# Altium schematic symbol library HAB_Lib.SchLib: 90 symbols
Pins are listed as number, name and electrical type; pins without a type are passive.

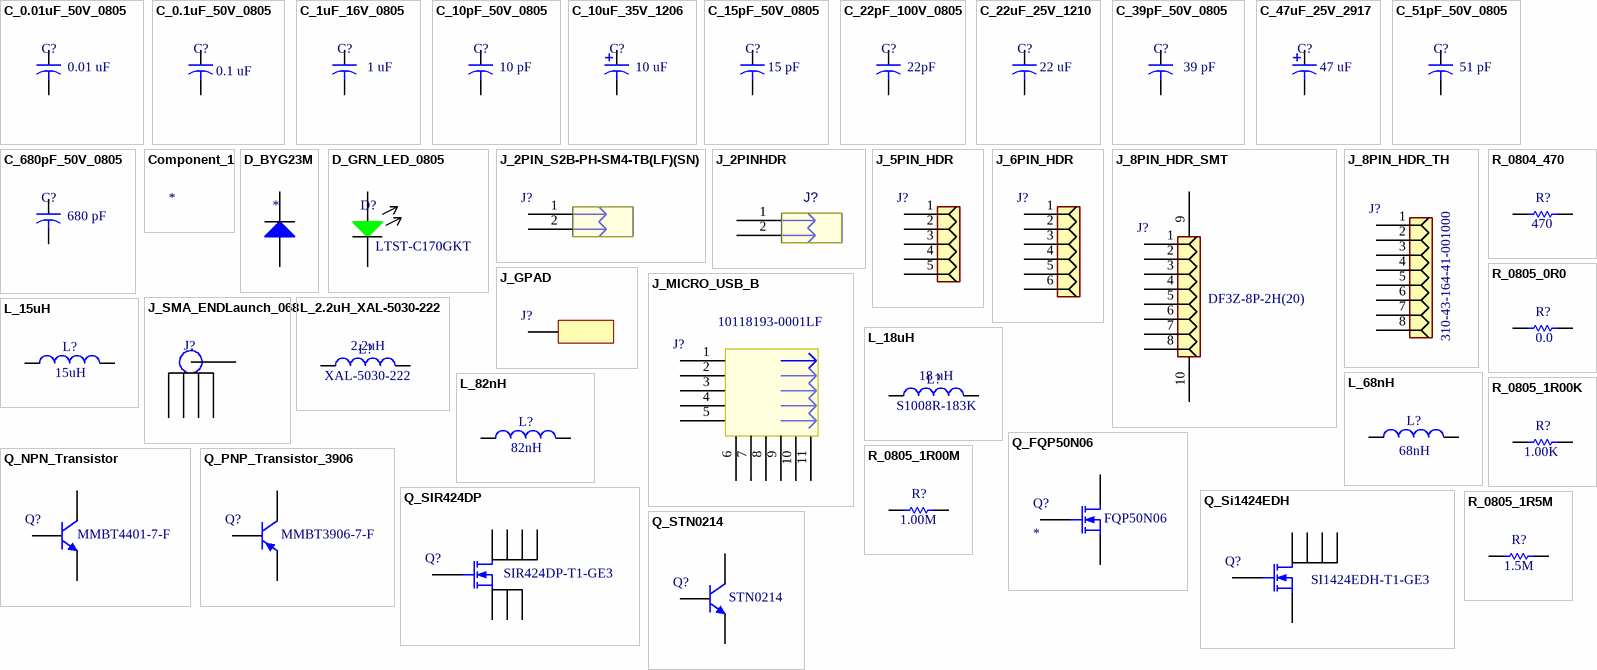
[diagram p0: symbols C_0.01uF_50V_0805 to R_0805_1R5M]

## C_0.01uF_50V_0805
designator C?  value 0.01 uF  (hidden comment: *)
CAP CER 10000PF 50V 10% X7R 0805; Part Number: 08055C103KAT2A; Manufacturer: AVX Corporation; Supplier 1: Digi-Key; Supplier Part Number 1: 478-1383-1-ND; Voltage Rating: 50V; Height: 1.25mm
footprint CAP0805LOW (Chip Capacitor, 2-Leads, 0805, IPC Low Density)
simulation model CAP (Default semiconductor capacitor)
pins: 1, 2

## C_0.1uF_50V_0805
designator C?  value 0.1 uF  (hidden comment: *)
CAP CER 0.1UF 50V Y5V 0805; Manufacturer: Kemet; Part Number: GRM21BR71H104KA01L; Temp: -55C to 125C; Tolerance: 10%; Voltage Rating: 50V; Height: 1.25mm; Supplier 1: Digi-Key; Supplier Part Number 1: 399-1177-1-ND
footprint CAP0805LOW (Chip Capacitor, 2-Leads, 0805, IPC Low Density)
simulation model CAP (Default semiconductor capacitor)
pins: 1, 2

## C_1uF_16V_0805
designator C?  value 1 uF  (hidden comment: *)
CAP CER 1UF 16V X7R 0805; Supplier 1: Digi-Key; Supplier Part Number 1: 311-1365-1-ND
footprint CAP0805LOW (Chip Capacitor, 2-Leads, 0805, IPC Low Density)
pins: 1, 2

## C_10pF_50V_0805
designator C?  value 10 pF  (hidden comment: *)
CAP CER 10PF 50V 5% NP0 0805; Part Number: 500R15N100JV4T; Manufacturer: Johanson Dielectrics Inc; Supplier 1: Digi-Key; Supplier Part Number 1: 709-1168-1-ND; Height: 1.25mm
footprint CAP0805LOW (Chip Capacitor, 2-Leads, 0805, IPC Low Density)
pins: 1, 2

## C_10uF_35V_1206
designator C?  value 10 uF  (hidden comment: *)
CAP CER 10UF 35V Y5V 1206; Part Number: TMK316F106ZL-T; Manufacturer: Taiyo Yuden; Voltage Rating: 25V; Temp: -30C to 85C; Supplier 1: Digi-Key; Supplier Part Number 1: 587-1352-1-ND
footprint CAP1206LOW (Chip Capacitor, 2-Leads, Body 3.1x1.6mm, IPC Low Density)
pins: 1, 2

## C_15pF_50V_0805
designator C?  value 15 pF  (hidden comment: *)
CAP CER 15PF 50V 5% NP0 0805; Manufacturer: Johanson Dielectrics Inc; Part Number: 500R15N150JV4T; Supplier 1: Digi-Key; Supplier Part Number 1: 709-1170-1-ND; Height: 1.25mm
footprint CAP0805LOW (Chip Capacitor, 2-Leads, 0805, IPC Low Density)
pins: 1, 2

## C_22pF_100V_0805
designator C?  value 22pF  (hidden comment: *)
CAP CER 22PF 100V 5% NP0 0805; Part Number: C0805C220J1GACTU; Manufacturer: Kemet; Supplier 1: Digi-Key; Supplier Part Number 1: 399-8035-1-ND; Height: 1.25mm
footprint CAP0805LOW (Chip Capacitor, 2-Leads, 0805, IPC Low Density)
pins: 1, 2

## C_22uF_25V_1210
designator C?  value 22 uF  (hidden comment: *)
CAP CER 22UF 25V X5R 10% 1210; Manufacturer: AVX Corp.; Part Number: 12103D226KAT2A; Supplier 1: Digi-Key; Supplier Part Number 1: 478-5999-1-ND; Voltage Rating: 25V; Tolerance: 10%; Height: 2.79mm
footprint CAPC3225X28L-1210 (Chip Capacitor, 2-Leads, Body 3.2x2.5mm, IPC High Density)
simulation model CAP (Default semiconductor capacitor)
pins: 1, 2

## C_39pF_50V_0805
designator C?  value 39 pF  (hidden comment: *)
CAP CER 39PF 50V NP0 0805; Supplier 1: Digi-Key; Supplier Part Number 1: 399-1116-1-ND
footprint CAP0805LOW (Chip Capacitor, 2-Leads, 0805, IPC Low Density)
pins: 1, 2

## C_47uF_25V_2917
designator C?  value 47 uF  (hidden comment: *)
CAP TANTALUM 47UF 25V 10% SMD 2917; Manufacturer: AVX Corp; Part Number: TAJY476K025RNJ; Temp: -55C to 125C; Supplier 1: Digi-Key; Supplier Part Number 1: 478-5259-1-ND; Voltage Rating: 25V; Tolerance: 10%; Height: 2mm
footprint CAPCP7343X20L-2917 (Chip Capacitor, 2-Leads, Body 7.3x4.3mm, IPC High Density)
pins: 1, 2

## C_51pF_50V_0805
designator C?  value 51 pF  (hidden comment: *)
CAP CER 51PF 50V NP0 0805; Supplier 1: Digi-Key; Supplier Part Number 1: 399-11175-1-ND
footprint CAP0805LOW (Chip Capacitor, 2-Leads, 0805, IPC Low Density)
pins: 1, 2

## C_680pF_50V_0805
designator C?  value 680 pF  (hidden comment: *)
CAP CER 680PF 50V NP0 0805; Part Number: CL21C681JBC1PNC; Supplier 1: Digi-Key; Supplier Part Number 1: 1276-2685-1-ND
footprint CAP0805LOW (Chip Capacitor, 2-Leads, 0805, IPC Low Density)
pins: 1, 2

## Component_1
designator *  (value not drawn)

## D_BYG23M
designator *  (value not drawn)
pins: 1 K, 2 A

## D_GRN_LED_0805
designator D?  Part Number: LTST-C170GKT  (hidden comment: *)
LED GREEN CLEAR 0805 SMD; Manufacturer: Lite_On Inc; Height: 1.1mm; Supplier 1: Digi-Key; Supplier Part Number 1: 160-1179-1-ND
footprint LEDCP2614X11M (LED 0805, 2-Leads, Body 2.6x1.4mm, IPC Low Density)
pins: 1 K, 2 A

## J_2PIN_S2B-PH-SM4-TB(LF)(SN)
designator J?  (value not drawn)
CONN HEADER PH SIDE 2POS 2MM SMD; Part Number: S2B-PH-SM4-TB(LF)(SN); Supplier 1: Digi-Key; Supplier Part Number 1: 455-1749-1-ND
footprint J_JST_2PIN_SMT
pins: 1, 2

## J_2PINHDR
designator J?  (value not drawn)
CONN HEADER VERT 2POS .100 30AU; Manufacturer: TE Connectivity; Part Number: 3-641213-2
footprint J_2PINHDR_0.100 (Std 2 Pin Male Hdr)
pins: 1, 2

## J_5PIN_HDR
designator J?  (value not drawn)
footprint J_5PIN_HDR_TH
pins: 1, 2, 3, 4, 5

## J_6PIN_HDR
designator J?  (value not drawn)
footprint J_6PIN_HDR
pins: 1, 2, 3, 4, 5, 6

## J_8PIN_HDR_SMT
designator J?  Part Number: DF3Z-8P-2H(20)  (hidden comment: *)
CONN HEADER 8POS 2MM RT ANG TIN; Manufacturer: Hirose Electric Co Ltd; Height: 5.6mm; Supplier 1: Digi-Key; Supplier Part Number 1: HR2015-ND
footprint J_DF3Z_8P_2H (CONN HEADER 8POS 2MM RT ANG TIN)
pins: 1, 2, 3, 4, 5, 6, 7, 8, 9, 10

## J_8PIN_HDR_TH
designator J?  Part Number: 310-43-164-41-001000  (hidden comment: *)
CONN SOCKET STRIP 64PIN SOLDER; Manufacturer: Mill Max; Supplier 1: Digi-Key; Supplier Part Number 1: ED6264-ND
footprint J_8PINHDR_TH (100 mil Header)
pins: 1, 2, 3, 4, 5, 6, 7, 8

## J_GPAD
designator J?  (value not drawn)
SMT Pad
footprint J_GPAD
pins: 1 VCC

## J_MICRO_USB_B
designator J?  Part Number: 10118193-0001LF  (hidden comment: *)
CONN USB MICRO B RECPT SMT R/A; Manufacturer: FCI; Supplier 1: Digi-Key; Supplier Part Number 1: 609-4616-1-ND
footprint J_MICRO_USB (CONN USB MICRO B RECPT SMT R/A)
pins: 1, 2, 3, 4, 5, 6, 7, 8, 9, 10, 11

## J_SMA_ENDLaunch_068
designator J?  (value not drawn)
SMA Conn Jack End Launch PCB Gold SMT; Manufacturer: Emerson; Part Number: 142-0711-821; Supplier 1: Digi-Key; Supplier Part Number 1: J629-ND
footprint J_SMA_ENDLAUNCH STD 0.068 (SMA End-Launch Connector Std Length .068)
pins: 1, 2, 3, 4, 5

## L_2.2uH_XAL-5030-222
designator L?  value 2.2uH  Part Number: XAL-5030-222  (hidden comment: *)
Manufacturer: Coilcraft
footprint L_XLA50
pins: 1, 2

## L_15uH
designator L?  value 15uH  (hidden comment: *)
15µH Shielded Wirewound Inductor 1A 264 mOhm Max Nonstandard; Supplier 1: Digi-Key; Supplier Part Number 1: SRN4018-150MCT-ND
footprint L_XLA50
pins: 1, 2

## L_18uH
designator L?  value 18 uH  Part Number: S1008R-183K  (hidden comment: *)
INDUCTOR SHIELDED 18UH SMD; Manufacturer: API Devlen; Supplier 1: Digi-Key; Supplier Part Number 1: DN7886CT-ND
footprint INDC2724X24M (Chip Inductor, 2-Leads, Body 2.7x2.4mm, IPC Low Density)
pins: 1, 2

## L_68nH
designator L?  value 68nH  (hidden comment: *)
Fixed Inductors 1812SMS Midi Spring 68 nH 2 % 2.5 A; Part Number: 1812SMS-68N_L_; Supplier 1: Newark; Supplier Part Number 1: 04X9586
footprint L_1812SMS (Fixed Inductors 1812SMS Midi Spring 68 nH 2 % 2.5 A)
pins: 1, 2

## L_82nH
designator L?  value 82nH  (hidden comment: *)
Fixed Inductors 1812SMS Midi Spring 82 nH 2 % 2.5 A; Part Number: 1812SMS-82N_L_; Supplier 1: Mouser; Supplier Part Number 1: 994-1812SMS-82NGLC
footprint L_1812SMS (Fixed Inductors 1812SMS Midi Spring 68 nH 2 % 2.5 A)
pins: 1, 2

## Q_FQP50N06
designator Q?  Part Number: FQP50N06
MOSFET N-CH 60V 50A TO-220; Manufacturer: Fairchild Semiconductor; RDSon: 0.022 Ohms; Supplier 1: Mouser; Supplier Part Number 1: 512-FQP50N06; Current: 50A; VDSS: 60V; Temperature: -55 C to 175 C
footprint TO220-VERT-PAT
pins: 1 D, 2 G, 3 S

## Q_NPN_Transistor
designator Q?  Part Number: MMBT4401-7-F  (hidden comment: *)
TRANS NPN 350MW 40V SMD SOT23-3; Manufacturer: Diodes Inc; Supplier 1: Digi-Key; Supplier Part Number 1: MMBT4401-FDICT-ND; Height: 1.2mm
footprint SOT95P230X110-3L (SOT23, 3-Leads, Body 3.0x2.5mm (max), Pitch 0.95mm, IPC High Density)
simulation model 2N3904
pins: 1 C, 2 B, 3 E

## Q_PNP_Transistor_3906
designator Q?  Part Number: MMBT3906-7-F  (hidden comment: *)
TRANS PNP 40V 300MW SMD SOT23-3; Manufacturer: Diodes Inc.; Supplier 1: Digi-Key; Supplier Part Number 1: MMBT3906-FDICT-ND
footprint SOT95P230X110-3L (SOT23, 3-Leads, Body 3.0x2.5mm (max), Pitch 0.95mm, IPC High Density)
pins: 1 C, 2 B, 3 E

## Q_Si1424EDH
designator Q?  Part Number: SI1424EDH-T1-GE3  (hidden comment: *)
MOSFET N-CH 20V 4A SOT-363; Supplier 1: Digi-Key; Supplier Part Number 1: SI1424EDH-T1-GE3CT-ND
footprint MAXM-U6+4_M (SOT23, 6-Leads, Body 2.9x1.625mm, Pitch 0.95mm, IPC Low Density)
pins: 1 D, 2 D, 3 G, 4 S, 5 D, 6 D

## Q_SIR424DP
designator Q?  Part Number: SIR424DP-T1-GE3  (hidden comment: *)
MOSFET N-CH 20V 30A PPAK SO-8; Supplier 1: Digi-Key; Supplier Part Number 1: SIR424DP-T1-GE3CT-ND
footprint Q_SIR424DP_SO8 (QFN, 10-Leads, Body 5.15x6.15mm, Pitch 1.27mm, Thermal Pad 3.98x3.66mm, IPC Low Density)
pins: 1 S, 2 S, 3 S, 4 G, 5 D, 6 D, 7 D, 8 D

## Q_STN0214
designator Q?  Part Number: STN0214  (hidden comment: *)
TRANS NPN 1200V 0.2A SOT-223; Supplier 1: Digi-Key; Supplier Part Number 1: 497-12862-1-ND
footprint SOT230P700X180-4M (SOT223, 4-Leads, Body 6.7x7.3mm (max), Pitch 2.30mm, IPC Low Density)
pins: 1 C, 2 B, 3 E

## R_0804_470
designator R?  value 470  (hidden comment: *)
RES SMD 470 OHM 1% 1/8W 0805; Supplier 1: Digi-Key; Supplier Part Number 1: 311-470CRCT-ND
footprint RES0805LOW (Chip Resistor, 2-Leads, 0805, IPC Low Density)
pins: 1, 2

## R_0805_0R0
designator R?  value 0.0  (hidden comment: *)
RES 0.0 OHM 1/8W 0805 SMD; Part Number: ERJ-6GEY0R00V; Manufacturer: Panasonic; Supplier 1: Digi-Key; Supplier Part Number 1: P0.0ACT-ND; Height: 0.7mm
footprint RES0805LOW (Chip Resistor, 2-Leads, 0805, IPC Low Density)
simulation model RES (Default semiconductor resistor)
pins: 1, 2

## R_0805_1R00K
designator R?  value 1.00K  (hidden comment: *)
RES 1.00K OHM 1/8W 1% 0805 SMD; Manufacturer: Panasonic; Part Number: ERJ-6ENF1001V; Temp: -55C to 125C; Wattage: 0.125W; Supplier 1: Digi-Key; Supplier Part Number 1: P1.00KCCT-ND; Height: 0.7mm; Tolerance: 1%
footprint RES0805LOW (Chip Resistor, 2-Leads, 0805, IPC Low Density)
simulation model RES (Default semiconductor resistor)
pins: 1, 2

## R_0805_1R00M
designator R?  value 1.00M  (hidden comment: *)
RES SMD 1M OHM 1% 1/8W 0805; Supplier 1: Digi-Key; Supplier Part Number 1: 311-1.00MCRCT-ND
footprint RES0805LOW (Chip Resistor, 2-Leads, 0805, IPC Low Density)
pins: 1, 2

## R_0805_1R5M
designator R?  value 1.5M  (hidden comment: *)
footprint RES0805LOW (Chip Resistor, 2-Leads, 0805, IPC Low Density)
pins: 1, 2

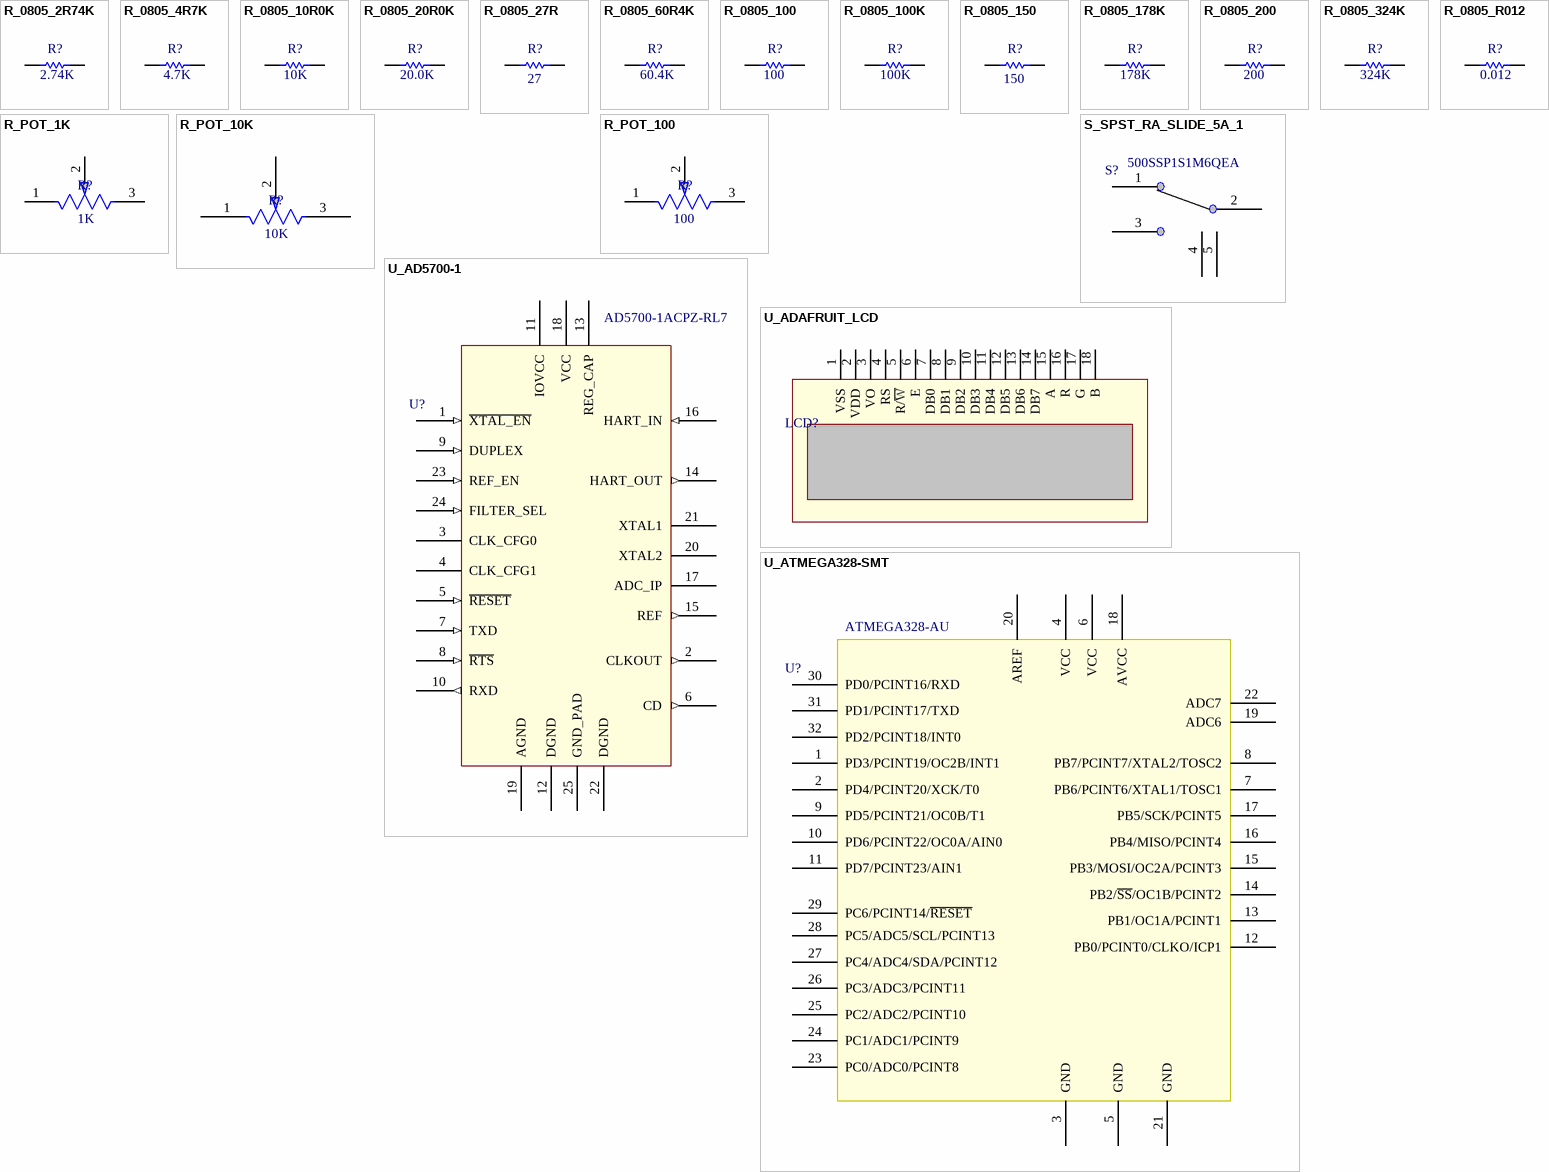
[diagram p1: symbols R_0805_2R74K to U_ATMEGA328-SMT]

## R_0805_2R74K
designator R?  value 2.74K  (hidden comment: *)
RES SMD 2.74K OHM 1% 1/8W 0805; Supplier 1: Digi-Key; Supplier Part Number 1: P2.74KCCT-ND
footprint RES0805LOW (Chip Resistor, 2-Leads, 0805, IPC Low Density)
pins: 1, 2

## R_0805_4R7K
designator R?  value 4.7K  (hidden comment: *)
RES SMD 4.7K OHM 1% 1/8W 0805; Supplier 1: Digi-Key; Supplier Part Number 1: 311-4.70KCRCT-ND
footprint RES0805LOW (Chip Resistor, 2-Leads, 0805, IPC Low Density)
pins: 1, 2

## R_0805_10R0K
designator R?  value 10K  (hidden comment: *)
footprint RES0805LOW (Chip Resistor, 2-Leads, 0805, IPC Low Density)
pins: 1, 2

## R_0805_20R0K
designator R?  value 20.0K  (hidden comment: *)
RES 20K OHM 1/8W 1% 0805 SMD; Part Number: RMCF0805FT20K0; Manufacturer: Stackpole Electronics Inc; Supplier 1: Digi-Key; Supplier Part Number 1: RMCF0805FT20K0CT-ND
simulation model RES (Default semiconductor resistor)
footprint RES0805LOW (Chip Resistor, 2-Leads, 0805, IPC Low Density)
pins: 1, 2

## R_0805_27R
designator R?  value 27  (hidden comment: *)
footprint RES0805LOW (Chip Resistor, 2-Leads, 0805, IPC Low Density)
pins: 1, 2

## R_0805_60R4K
designator R?  value 60.4K  (hidden comment: *)
footprint RES0805LOW (Chip Resistor, 2-Leads, 0805, IPC Low Density)
pins: 1, 2

## R_0805_100
designator R?  value 100  (hidden comment: *)
RES 100 OHM 1/8W 1% 0805 SMD; Manufacturer: Panasonic; Part Number: ERJ-6ENF1000V; Power Rating: 1/*W; Tolerance: 1%; Supplier 1: Digi-Key; Supplier Part Number 1: P100CCT-ND
footprint RES0805LOW (Chip Resistor, 2-Leads, 0805, IPC Low Density)
simulation model RES (Default semiconductor resistor)
pins: 1, 2

## R_0805_100K
designator R?  value 100K  (hidden comment: *)
RES 100K OHM 1/8W 1% 0805 SMD; Manufacturer: Panasonic; Part Number: ERJ-6ENF1003V; Supplier 1: Digi-Key; Supplier Part Number 1: P100KCCT-ND
footprint RES0805LOW (Chip Resistor, 2-Leads, 0805, IPC Low Density)
simulation model RES (Default semiconductor resistor)
pins: 1, 2

## R_0805_150
designator R?  value 150  (hidden comment: *)
RES 150 OHM 1/8W 1% 0805 SMD; Part Number: RMCF0805FT150R; Temp: -55C to 125C; Wattage: 1/10W; Supplier 1: Digi-Key; Supplier Part Number 1: RMCF0805FT150RCT-ND; Tolerance: 1%
footprint RES0805LOW (Chip Resistor, 2-Leads, 0805, IPC Low Density)
pins: 1, 2

## R_0805_178K
designator R?  value 178K  (hidden comment: *)
footprint RES0805LOW (Chip Resistor, 2-Leads, 0805, IPC Low Density)
pins: 1, 2

## R_0805_200
designator R?  value 200  (hidden comment: *)
RES 200 OHM 1/8W 1% 0805 SMD; Manufacture: Stackpole Electronics; Wattage: 1/10W; Temp: -55C to 125C; Supplier 1: Digi-Key; Supplier Part Number 1: RMCF0805FT200RCT-ND; Tolerance: 1%; Height: 0.35mm
footprint RES0805LOW (Chip Resistor, 2-Leads, 0805, IPC Low Density)
pins: 1, 2

## R_0805_324K
designator R?  value 324K  (hidden comment: *)
footprint RES0805LOW (Chip Resistor, 2-Leads, 0805, IPC Low Density)
pins: 1, 2

## R_0805_R012
designator R?  value 0.012  (hidden comment: *)
RES SMD 0.012 OHM 1% 1/2W 0805; Supplier 1: Digi-Key; Supplier Part Number 1: P19198CT-ND
footprint RES0805LOW (Chip Resistor, 2-Leads, 0805, IPC Low Density)
pins: 1, 2

## R_POT_1K
designator R?  value 1K  (hidden comment: *)
POT 1K OHM 1/8W CARB VERTICAL; Manufacturer: *; Supplier 1: Digi-Key; Supplier Part Number 1: CT2262-ND
footprint R_POT_TH (POT 500 OHM 1/8W CARB VERTICAL)
pins: 1 CW, 2 W, 3 CCW

## R_POT_10K
designator R?  value 10K  (hidden comment: *)
POT 10K OHM 1/8W CARB VERTICAL; Part Number: 296UD103B1N; Manufacturer: *; Supplier 1: Digi-Key; Supplier Part Number 1: CT2265-ND
footprint R_POT_TH (POT 500 OHM 1/8W CARB VERTICAL)
pins: 1 CW, 2 W, 3 CCW

## R_POT_100
designator R?  value 100  (hidden comment: *)
TRIMMER 100 OHM 0.25W SMD; Supplier 1: Arrow; Supplier Part Number 1: 3214X-1-101E**MULT1
footprint R_POT_3214X
pins: 1 CW, 2 W, 3 CCW

## S_SPST_RA_SLIDE_5A_1
designator S?  Part Number: 500SSP1S1M6QEA  (hidden comment: *)
Slide Switch SPDT Through Hole, Right Angle; Manufacturer: E-Switch; Contact Timing: Not Specified; Switch Function: On-On; Current Rating: 5A (AC/DC); Voltage Rating - AC: 120V; Voltage Rating - DC: 28V; Actuator Type: Standard; Actuator Length: 4.72mm; Actuator Material: Polyamide (PA), Nylon; Switch Travel: 2.16mm; Mechanical Life: 30,000 Cycles; Supplier 1: Digi-Key; Manufacturer Part Number: 500SSP1S1M6QEA; RoHS: RoHS Compliant; Category: Switches; Stock 1: 10487; Pricing 1: 1=2.93, 10=2.808, 50=2.39, 100=2.3303, 250=2.27052, 500=1.912, 1000=1.7925, 5000=1.64313 (USD); Packaging: Bulk; Part Status: Active; Circuit: SPDT; Contact Material: Copper Alloy; Contact Finish: Silver; Mounting Type: Through Hole, Right Angle; Termination Style: PC Pin; Features: Epoxy Sealed Terminals; Operating Temperature: -30°C ~ 85°C; Electrical Life: 30,000 Cycles; Operating Force: -; ComponentLink1URL: http://spec_sheets.e-switch.com/specs/T511006.pdf; ComponentLink1Description: http://spec_sheets.e-switch.com/specs/T511006.pdf; Supplier Part Number 1: EG2478-ND
footprint S_SPST_RA_SLIDE_5A
pins: 1, 2, 3, 4, 5

## U_AD5700-1
designator U?  Part Number: AD5700-1ACPZ-RL7  (hidden comment: *)
IC HART MODEM LP INT OSC 24LFCSP; Supplier 1: Digi-Key; Supplier Part Number 1: AD5700-1ACPZ-RL7CT-ND
footprint QFN50P400X400X80_HS-25M (QFN, 24-Leads, Body 4.00x4.00mm, Pitch 0.50mm, Thermal Pad 2.10x2.10mm, IPC Low Density)
pins: 1 ~{XTAL_EN} (in), 2 CLKOUT (out), 3 CLK_CFG0, 4 CLK_CFG1, 5 ~{RESET} (in), 6 CD (out), 7 TXD (in), 8 ~{RTS} (in), 9 DUPLEX (in), 10 RXD (out), 11 IOVCC (power), 12 DGND (power), 13 REG_CAP, 14 HART_OUT (out), 15 REF (out), 16 HART_IN (in), 17 ADC_IP, 18 VCC (power), 19 AGND, 20 XTAL2, 21 XTAL1, 22 DGND (power), 23 REF_EN (in), 24 FILTER_SEL (in), 25 GND_PAD (power)

## U_ADAFRUIT_LCD
designator LCD?  (value not drawn)
RGB backlight positive LCD 20x4 - black on RGB
footprint LCD (Adafruit LCD)
pins: 1 VSS, 2 VDD, 3 VO, 4 RS, 5 R/~{W}, 6 E, 7 DB0, 8 DB1, 9 DB2, 10 DB3, 11 DB4, 12 DB5, 13 DB6, 14 DB7, 15 A, 16 R, 17 G, 18 B

## U_ATMEGA328-SMT
designator U?  Part Number: ATMEGA328-AU  (hidden comment: *)
IC MCU AVR 32K FLASH 32TQFP; Manufacturer: Atmel; Supplier 1: Digi-Key; Supplier Part Number 1: ATMEGA328-AU-ND
pins: 1 PD3/PCINT19/OC2B/INT1, 2 PD4/PCINT20/XCK/T0, 3 GND, 4 VCC, 5 GND, 6 VCC, 7 PB6/PCINT6/XTAL1/TOSC1, 8 PB7/PCINT7/XTAL2/TOSC2, 9 PD5/PCINT21/OC0B/T1, 10 PD6/PCINT22/OC0A/AIN0, 11 PD7/PCINT23/AIN1, 12 PB0/PCINT0/CLKO/ICP1, 13 PB1/OC1A/PCINT1, 14 PB2/~{SS}/OC1B/PCINT2, 15 PB3/MOSI/OC2A/PCINT3, 16 PB4/MISO/PCINT4, 17 PB5/SCK/PCINT5, 18 AVCC, 19 ADC6, 20 AREF, 21 GND, 22 ADC7, 23 PC0/ADC0/PCINT8, 24 PC1/ADC1/PCINT9, 25 PC2/ADC2/PCINT10, 26 PC3/ADC3/PCINT11, 27 PC4/ADC4/SDA/PCINT12, 28 PC5/ADC5/SCL/PCINT13, 29 PC6/PCINT14/~{RESET}, 30 PD0/PCINT16/RXD, 31 PD1/PCINT17/TXD, 32 PD2/PCINT18/INT0

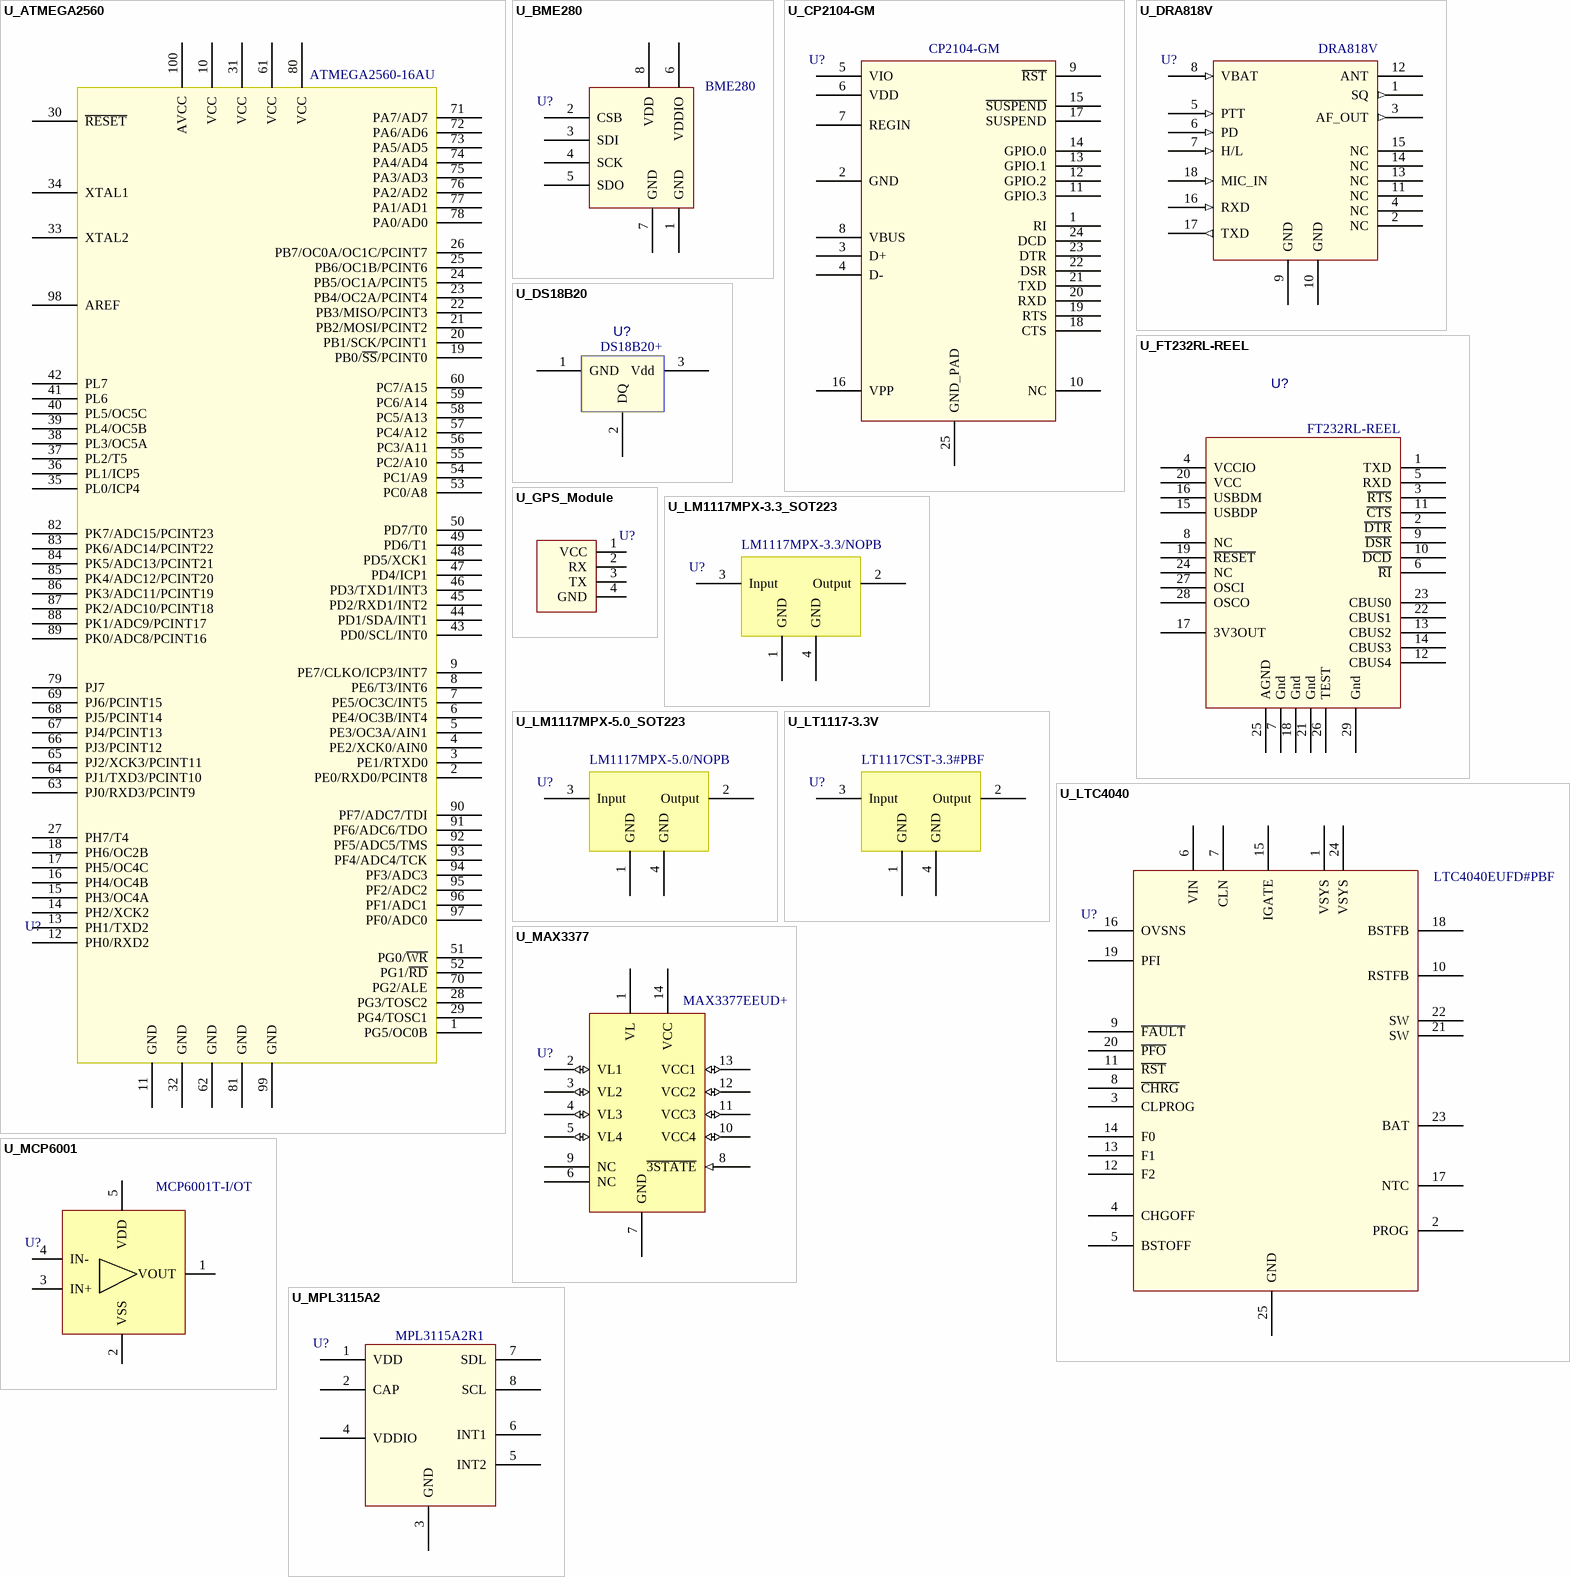
[diagram p2: symbols U_ATMEGA2560 to U_MPL3115A2]

## U_ATMEGA2560
designator U?  Part Number: ATMEGA2560-16AU  (hidden comment: *)
IC AVR MCU 256K 16MHZ 100TQFP; Manufacturer: Atmel; Supplier 1: Digi-Key; Supplier Part Number 1: ATMEGA2560-16AU-ND
footprint TSQFP50P1600X1600X120-100M (TSQFP, 100-Leads, Body 16.3x16.3mm (max), Pitch 0.50mm, IPC Low Density)
pins: 1 PG5/OC0B, 2 PE0/RXD0/PCINT8, 3 PE1/RTXD0, 4 PE2/XCK0/AIN0, 5 PE3/OC3A/AIN1, 6 PE4/OC3B/INT4, 7 PE5/OC3C/INT5, 8 PE6/T3/INT6, 9 PE7/CLKO/ICP3/INT7, 10 VCC, 11 GND, 12 PH0/RXD2, 13 PH1/TXD2, 14 PH2/XCK2, 15 PH3/OC4A, 16 PH4/OC4B, 17 PH5/OC4C, 18 PH6/OC2B, 19 PB0/~{SS}/PCINT0, 20 PB1/SCK/PCINT1, 21 PB2/MOSI/PCINT2, 22 PB3/MISO/PCINT3, 23 PB4/OC2A/PCINT4, 24 PB5/OC1A/PCINT5, 25 PB6/OC1B/PCINT6, 26 PB7/OC0A/OC1C/PCINT7, 27 PH7/T4, 28 PG3/TOSC2, 29 PG4/TOSC1, 30 ~{RESET}, 31 VCC, 32 GND, 33 XTAL2, 34 XTAL1, 35 PL0/ICP4, 36 PL1/ICP5, 37 PL2/T5, 38 PL3/OC5A, 39 PL4/OC5B, 40 PL5/OC5C, 41 PL6, 42 PL7, 43 PD0/SCL/INT0, 44 PD1/SDA/INT1, 45 PD2/RXD1/INT2, 46 PD3/TXD1/INT3, 47 PD4/ICP1, 48 PD5/XCK1, 49 PD6/T1, 50 PD7/T0, 51 PG0/~{WR}, 52 PG1/~{RD}, 53 PC0/A8, 54 PC1/A9, 55 PC2/A10, 56 PC3/A11, 57 PC4/A12, 58 PC5/A13, 59 PC6/A14, 60 PC7/A15, 61 VCC, 62 GND, 63 PJ0/RXD3/PCINT9, 64 PJ1/TXD3/PCINT10, 65 PJ2/XCK3/PCINT11, 66 PJ3/PCINT12, 67 PJ4/PCINT13, 68 PJ5/PCINT14, 69 PJ6/PCINT15, 70 PG2/ALE, 71 PA7/AD7, 72 PA6/AD6, 73 PA5/AD5, 74 PA4/AD4, 75 PA3/AD3, 76 PA2/AD2, 77 PA1/AD1, 78 PA0/AD0, 79 PJ7, 80 VCC, 81 GND, 82 PK7/ADC15/PCINT23, 83 PK6/ADC14/PCINT22, 84 PK5/ADC13/PCINT21, 85 PK4/ADC12/PCINT20, 86 PK3/ADC11/PCINT19, 87 PK2/ADC10/PCINT18, 88 PK1/ADC9/PCINT17, 89 PK0/ADC8/PCINT16, 90 PF7/ADC7/TDI, 91 PF6/ADC6/TDO, 92 PF5/ADC5/TMS, 93 PF4/ADC4/TCK, 94 PF3/ADC3, 95 PF2/ADC2, 96 PF1/ADC1, 97 PF0/ADC0, 98 AREF, 99 GND, 100 AVCC

## U_BME280
designator U?  Part Number: BME280  (hidden comment: *)
SENSOR PRESSURE HUMIDITY TEMP; Supplier 1: Digi-Key; Supplier Part Number 1: 828-1063-1-ND
footprint U_BME280 (SENSOR PRESSURE HUMIDITY TEMP)
pins: 1 GND, 2 CSB, 3 SDI, 4 SCK, 5 SDO, 6 VDDIO, 7 GND, 8 VDD

## U_CP2104-GM
designator U?  Part Number: CP2104-GM  (hidden comment: *)
IC SGL USB-TO-UART BRIDGE 24QFN; Supplier 1: Digi-Key; Supplier Part Number 1: 336-2008-5-ND
footprint CYP-LQX24_M (QFN, 24-Leads, Body 4x4mm, Pitch 0.5mm, Thermal Pad 2.65x2.65mm, IPC Low Density)
pins: 1 RI, 2 GND, 3 D+, 4 D-, 5 VIO, 6 VDD, 7 REGIN, 8 VBUS, 9 ~{RST}, 10 NC, 11 GPIO.3, 12 GPIO.2, 13 GPIO.1, 14 GPIO.0, 15 ~{SUSPEND}, 16 VPP, 17 SUSPEND, 18 CTS, 19 RTS, 20 RXD, 21 TXD, 22 DSR, 23 DTR, 24 DCD, 25 GND_PAD

## U_DRA818V
designator U?  Part Number: DRA818V  (hidden comment: *)
VHF Band Voice Transceiver Module
footprint DRA818_breakout
pins: 1 SQ (out), 2 NC, 3 AF_OUT (out), 4 NC, 5 PTT (in), 6 PD (in), 7 H/L (in), 8 VBAT (in), 9 GND (power), 10 GND (power), 11 NC, 12 ANT, 13 NC, 14 NC, 15 NC, 16 RXD (in), 17 TXD (out), 18 MIC_IN (in)

## U_DS18B20
designator U?, comment Part Number: DS18B20+  (hidden comment: DS1820)
IC THERM MICROLAN PROG-RES TO-92; Manufacturer: Maxim Semiconductor; Supplier 1: Digi-Key; Supplier Part Number 1: DS18B20+-ND
footprint TO92-PAT
pins: 1 GND, 2 DQ, 3 Vdd

## U_FT232RL-REEL
designator U?, comment Part Number: FT232RL-REEL  (hidden comment: FT232RL)
IC USB FS SERIAL UART 28-SSOP; Manufacturer: FTDI; Supplier 1: Digi-Key; Supplier Part Number 1: 768-1007-1-ND
footprint TSSOP65P640X120_HS-28M (TSSOP, 28-Leads, Body 9.8x4.5mm (max), Pitch 0.65mm, IPC Low Density)
pins: 1 TXD, 2 ~{DTR}, 3 ~{RTS}, 4 VCCIO, 5 RXD, 6 ~{RI}, 7 Gnd, 8 NC, 9 ~{DSR}, 10 ~{DCD}, 11 ~{CTS}, 12 CBUS4, 13 CBUS2, 14 CBUS3, 15 USBDP, 16 USBDM, 17 3V3OUT, 18 Gnd, 19 ~{RESET}, 20 VCC, 21 Gnd, 22 CBUS1, 23 CBUS0, 24 NC, 25 AGND, 26 TEST, 27 OSCI, 28 OSCO, 29 Gnd

## U_GPS_Module
designator U?  (value not drawn)
GPS Module
footprint U_GPS_MODULE
pins: 1 VCC, 2 RX, 3 TX, 4 GND

## U_LM1117MPX-3.3_SOT223
designator U?  Part Number: LM1117MPX-3.3/NOPB  (hidden comment: *)
IC REG LDO 3.3V 0.8A SOT223; Manufacturer: Texas Instruments; Supplier 1: Digi-Key; Supplier Part Number 1: LM1117MPX-3.3/NOPBCT-ND
footprint SOT230P700X180-4M (SOT223, 4-Leads, Body 6.7x7.3mm (max), Pitch 2.30mm, IPC Low Density)
pins: 1 GND, 2 Output, 3 Input, 4 GND

## U_LM1117MPX-5.0_SOT223
designator U?  Part Number: LM1117MPX-5.0/NOPB  (hidden comment: *)
IC REG LDO 5V 0.8A SOT223; Manufacturer: Texas Instruments; Supplier 1: Digi-Key; Supplier Part Number 1: LM1117MP-5.0/NOPBDKR-ND
footprint SOT230P700X180-4M (SOT223, 4-Leads, Body 6.7x7.3mm (max), Pitch 2.30mm, IPC Low Density)
pins: 1 GND, 2 Output, 3 Input, 4 GND

## U_LT1117-3.3V
designator U?  Part Number: LT1117CST-3.3#PBF  (hidden comment: *)
IC REG LDO 3.3V SOT-223; Manufacturer: Linear Technology; Supplier 1: Digi-Key; Supplier Part Number 1: LT1117CST-3.3#PBF-ND
footprint SOT230P700X180-4M (SOT223, 4-Leads, Body 6.7x7.3mm (max), Pitch 2.30mm, IPC Low Density)
pins: 1 GND, 2 Output, 3 Input, 4 GND

## U_LTC4040
designator U?  Part Number: LTC4040EUFD#PBF  (hidden comment: *)
IC BATT CHARGER 55V BB 24QFN; Supplier 1: Digi-Key; Supplier Part Number 1: LTC4040EUFD#PBF-ND
footprint QFN50P400X500X80_HS-25M (QFN, 24-Leads, Body 4.00x5.00mm, Pitch 0.50mm, Thermal Pad 2.65x3.65mm, IPC Low Density)
pins: 1 VSYS, 2 PROG, 3 CLPROG, 4 CHGOFF, 5 BSTOFF, 6 VIN, 7 CLN, 8 ~{CHRG}, 9 ~{FAULT}, 10 RSTFB, 11 ~{RST}, 12 F2, 13 F1, 14 F0, 15 IGATE, 16 OVSNS, 17 NTC, 18 BSTFB, 19 PFI, 20 ~{PFO}, 21 SW, 22 SW, 23 BAT, 24 VSYS, 25 GND (power)

## U_MAX3377
designator U?  Part Number: MAX3377EEUD+  (hidden comment: *)
IC LVL XLTR LV 230KBPS 14TSSOP; Manufacturer: Maxim Semiconductor; Supplier 1: Digi-Key; Supplier Part Number 1: MAX3377EEUD+-ND
footprint TSOP65P640X110-14M (TSSOP, 14-Leads, Body 5.00x4.40mm, Pitch 0.65mm, IPC Low Density)
pins: 1 VL (power), 2 VL1 (io), 3 VL2 (io), 4 VL3 (io), 5 VL4 (io), 6 NC, 7 GND (power), 8 ~{3STATE} (in), 9 NC, 10 VCC4 (io), 11 VCC3 (io), 12 VCC2 (io), 13 VCC1 (io), 14 VCC (power)

## U_MCP6001
designator U?  Part Number: MCP6001T-I/OT  (hidden comment: *)
IC OPAMP 1.8V 1MHZ SNGL SOT23-5; Manufacturer: Microchip; Supplier 1: Digi-Key; Supplier Part Number 1: MCP6001T-I/OTCT-ND
footprint SOT95P280X145-5M (SOT23, 5-Leads, Body 3.0x3.0mm (max), Pitch 0.95mm, IPC Low Density)
pins: 1 VOUT, 2 VSS, 3 IN+, 4 IN-, 5 VDD

## U_MPL3115A2
designator U?  Part Number: MPL3115A2R1  (hidden comment: *)
IC ALTIMETER I2C VERSION 8LGA; Supplier 1: Digi-Key; Supplier Part Number 1: MPL3115A2R1CT-ND
footprint U_MPL3115A2R1_8LGA (IC ALTIMETER I2C VERSION 8LGA)
pins: 1 VDD, 2 CAP, 3 GND, 4 VDDIO, 5 INT2, 6 INT1, 7 SDL, 8 SCL

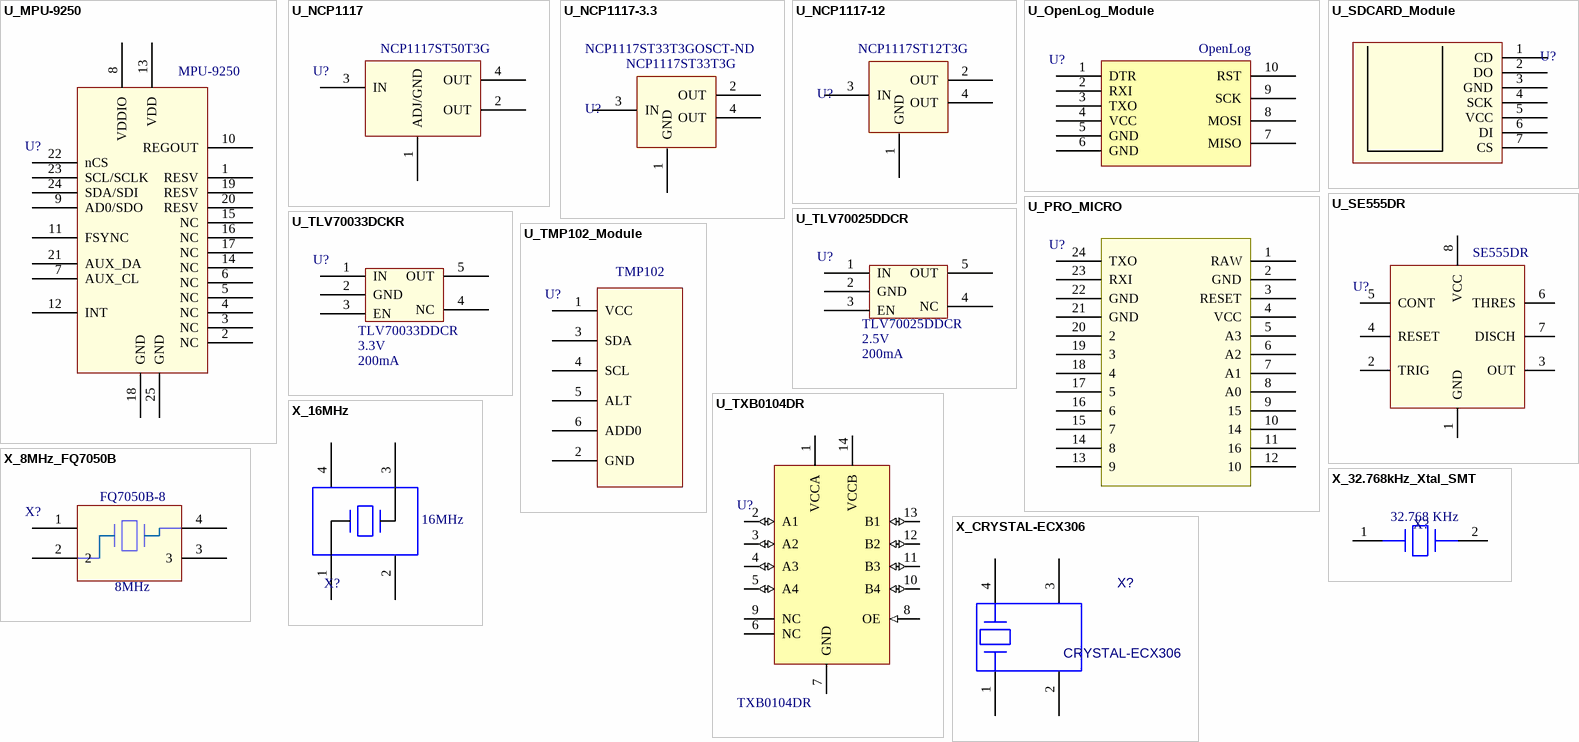
[diagram p3: symbols U_MPU-9250 to X_CRYSTAL-ECX306]

## U_MPU-9250
designator U?  Part Number: MPU-9250  (hidden comment: *)
IMU ACCEL/GYRO/MAG I2C/SPI 24QFN; Supplier 1: Digi-Key; Supplier Part Number 1: 1428-1019-1-ND
footprint QFN50P400X400X80_HS-25M (QFN, 24-Leads, Body 4.00x4.00mm, Pitch 0.50mm, Thermal Pad 2.10x2.10mm, IPC Low Density)
pins: 1 RESV, 2 NC, 3 NC, 4 NC, 5 NC, 6 NC, 7 AUX_CL, 8 VDDIO, 9 AD0/SDO, 10 REGOUT, 11 FSYNC, 12 INT, 13 VDD, 14 NC, 15 NC, 16 NC, 17 NC, 18 GND, 19 RESV, 20 RESV, 21 AUX_DA, 22 nCS, 23 SCL/SCLK, 24 SDA/SDI, 25 GND

## U_NCP1117
designator U?  Part Number: NCP1117ST50T3G  (hidden comment: *)
IC REG LDO 5V SOT-223; Manufacturer: ON Semiconductor; Supplier 1: Digi-Key; Supplier Part Number 1: NCP1117ST50T3GOSCT-ND
footprint SOT230P700X180-4M (SOT223, 4-Leads, Body 6.7x7.3mm (max), Pitch 2.30mm, IPC Low Density)
pins: 1 ADJ/GND, 2 OUT, 3 IN, 4 OUT

## U_NCP1117-3.3
designator U?  Part Number: NCP1117ST33T3G  Supplier Part Number 1: NCP1117ST33T3GOSCT-ND  (hidden comment: *)
IC REG LDO 3.3V 1A SOT223; Supplier 1: Digi-Key
footprint SOT230P700X180-4M (SOT223, 4-Leads, Body 6.7x7.3mm (max), Pitch 2.30mm, IPC Low Density)
pins: 1 GND, 2 OUT, 3 IN, 4 OUT

## U_NCP1117-12
designator U?  Part Number: NCP1117ST12T3G  (hidden comment: *)
IC REG LDO 12V 1A SOT223; Supplier 1: Digi-Key; Supplier Part Number 1: NCP1117ST12T3GOSCT-ND
footprint SOT230P700X180-4M (SOT223, 4-Leads, Body 6.7x7.3mm (max), Pitch 2.30mm, IPC Low Density)
pins: 1 GND, 2 OUT, 3 IN, 4 OUT

## U_OpenLog_Module
designator U?  Part Number: OpenLog  (hidden comment: *)
Open Logger; Manufacturer: Sparkfun
footprint U_OpenLog_Module
pins: 1 DTR, 2 RXI, 3 TXO, 4 VCC, 5 GND, 6 GND, 7 MISO, 8 MOSI, 9 SCK, 10 RST

## U_PRO_MICRO
designator U?  (value not drawn)
footprint U_PRO_MICRO
pins: 1 RAW, 2 GND, 3 RESET, 4 VCC, 5 A3, 6 A2, 7 A1, 8 A0, 9 15, 10 14, 11 16, 12 10, 13 9, 14 8, 15 7, 16 6, 17 5, 18 4, 19 3, 20 2, 21 GND, 22 GND, 23 RXI, 24 TXO

## U_SDCARD_Module
designator U?  (value not drawn)
Sparkfun SD Card Module
footprint U_SDCARD (SDCARD Module)
pins: 1 CD, 2 DO, 3 GND, 4 SCK, 5 VCC, 6 DI, 7 CS

## U_SE555DR
designator U?  Part Number: SE555DR  (hidden comment: *)
IC OSC SGL TIMER 100KHZ 8-SOIC; Supplier 1: Digi-Key; Supplier Part Number 1: 296-39169-1-ND
footprint SOIC-SN8_M (SOIC, 8-Leads, Body 4.9x3.8mm, Pitch 1.27mm, IPC Low Density)
pins: 1 GND, 2 TRIG, 3 OUT, 4 RESET, 5 CONT, 6 THRES, 7 DISCH, 8 VCC

## U_TLV70025DDCR
designator U?  Part Number: TLV70025DDCR  Voltage: 2.5V  Current: 200mA  (hidden comment: *)
IC REG LDO 2.5V 0.2A 5SOT; Supplier 1: Digi-Key; Supplier Part Number 1: 296-32411-1-ND
footprint MAXM-U5+2_M (SOT23, 5-Leads, Body 2.9x1.625mm, Pitch 0.95mm, IPC Low Density)
pins: 1 IN, 2 GND, 3 EN, 4 NC, 5 OUT

## U_TLV70033DCKR
designator U?  Part Number: TLV70033DDCR  Voltage: 3.3V  Current: 200mA  (hidden comment: *)
IC REG LDO 3.3V 0.2A 5SOT; Supplier 1: Digi-Key; Supplier Part Number 1: 296-32413-1-ND
footprint SOT95P280X145-5M (SOT23, 5-Leads, Body 3.0x3.0mm (max), Pitch 0.95mm, IPC Low Density)
pins: 1 IN, 2 GND, 3 EN, 4 NC, 5 OUT

## U_TMP102_Module
designator U?  Part Number: TMP102  (hidden comment: *)
IC DGTL TEMP SENSOR LP SOT-563; Manufacturer: Texas Instruments; Supplier 1: Digi-Key; Supplier Part Number 1: 296-22055-1-ND
footprint U_TMP102_Module (Altera DEO-Nano Board)
pins: 1 VCC, 2 GND, 3 SDA, 4 SCL, 5 ALT, 6 ADD0

## U_TXB0104DR
designator U?  Part Number: TXB0104DR  (hidden comment: *)
IC VOLT-LEVEL TRANSLATOR 14-SOIC; Supplier 1: Digi-Key; Supplier Part Number 1: 296-21928-1-ND
footprint MCHP-SOIC-SL14_M (SOIC, 14-Leads, Body 8.65x3.9mm, Pitch 1.27mm, IPC Low Density)
pins: 1 VCCA (power), 2 A1 (io), 3 A2 (io), 4 A3 (io), 5 A4 (io), 6 NC, 7 GND (power), 8 OE (in), 9 NC, 10 B4 (io), 11 B3 (io), 12 B2 (io), 13 B1 (io), 14 VCCB (power)

## X_8MHz_FQ7050B
designator X?  value 8MHz  Part Number: FQ7050B-8  (hidden comment: *)
CRYSTAL 8.0 MHZ 20PF SMD; Manufacturer: Fox Electronics; Supplier 1: Digi-Key; Supplier Part Number 1: 631-1029-1-ND
pins: 1, 2, 3, 4

## X_16MHz
designator X?  value 16MHz  (hidden comment: *)
CRYSTAL 16.0000MHZ 20PF SMD; Part Number: ECS-160-20-33-DU-TR; Supplier 1: Digi-Key; Supplier Part Number 1: XC1822CT-ND
footprint X_ECX-32
pins: 1, 2, 3, 4

## X_32.768kHz_Xtal_SMT
designator X?  value 32.768 KHz  (hidden comment: *)
CRYSTAL 32.768 KHZ 12.5PF SMD; Manufacturer: Citizen; Part Number: CM415-32.768KDZF-UT; Temp: -40C to 85C; Height: 0.9mm; Supplier 1: Digi-Key; Supplier Part Number 1: 300-8193-1-ND
footprint XTAL4105X09L (Chip Crystal, 2-Leads, Body 4.1x0.5mm, IPC High Density)
pins: 1, 2

## X_CRYSTAL-ECX306
designator X?, comment CRYSTAL-ECX306
Value: {Value}
footprint ECX-306-CRYSTAL-PAT
pins: 1, 2, 3, 4